# EAGLE library part DIN_SPEZIAL (library Stecker_Pins)
DIN Stecker, spezial 8*3Pin und 7 Flachstecker
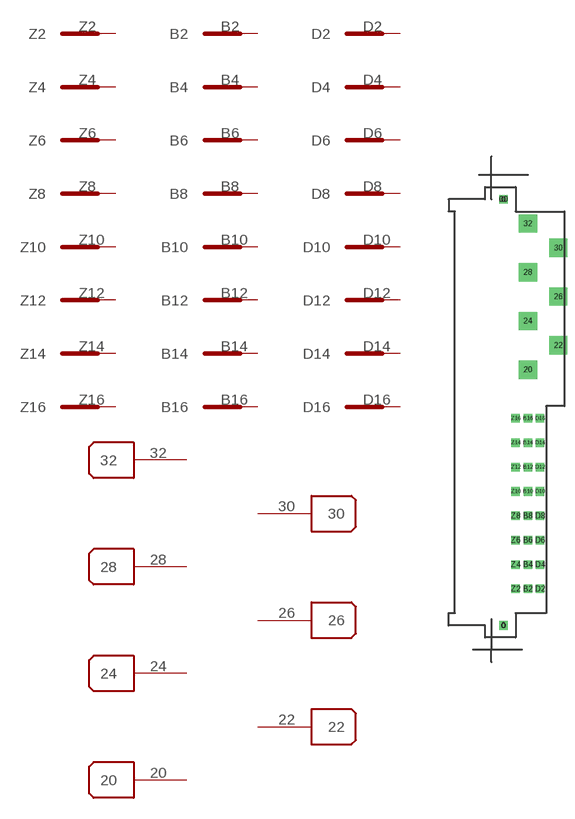
[diagram p6: symbol with the pads of DINSPEZ1; footprint DINSPEZ1]

Designator prefix CON

## DIN_SPEZIAL  [DINSPEZ1]
20  20
22  22
24  24
26  26
28  28
30  30
32  32
B2  B2
B4  B4
B6  B6
B8  B8
B10  B10
B12  B12
B14  B14
B16  B16
D2  D2
D4  D4
D6  D6
D8  D8
D10  D10
D12  D12
D14  D14
D16  D16
Z2  Z2
Z4  Z4
Z6  Z6
Z8  Z8
Z10  Z10
Z12  Z12
Z14  Z14
Z16  Z16

## Footprint DINSPEZ1 (pad centres in mm)
drill 0.813 pad 1.778 square: 0 0,0; 00 0,88.9
drill 0.8 pad 3.81 square: 20 5.08,53.34; 22 11.43,58.42; 24 5.08,63.5; 26 11.43,68.58; 28 5.08,73.66; 30 11.43,78.74; 32 5.08,83.82
drill 0.8 pad 1.778 square: B2 5.08,7.62; B4 5.08,12.7; B6 5.08,17.78; B8 5.08,22.86; B10 5.08,27.94; B12 5.08,33.02; B14 5.08,38.1; B16 5.08,43.18; D2 7.62,7.62; D4 7.62,12.7; D6 7.62,17.78; D8 7.62,22.86; D10 7.62,27.94; D12 7.62,33.02; D14 7.62,38.1; D16 7.62,43.18; Z2 2.54,7.62; Z4 2.54,12.7; Z6 2.54,17.78; Z8 2.54,22.86; Z10 2.54,27.94; Z12 2.54,33.02; Z14 2.54,38.1; Z16 2.54,43.18
hole 0.8 at 0,88.9
hole 0.8 at 0,0